# Altium schematic symbol library Mechanical_Parts.SchLib: 7 symbols
Pins are listed as number, name and electrical type; pins without a type are passive.

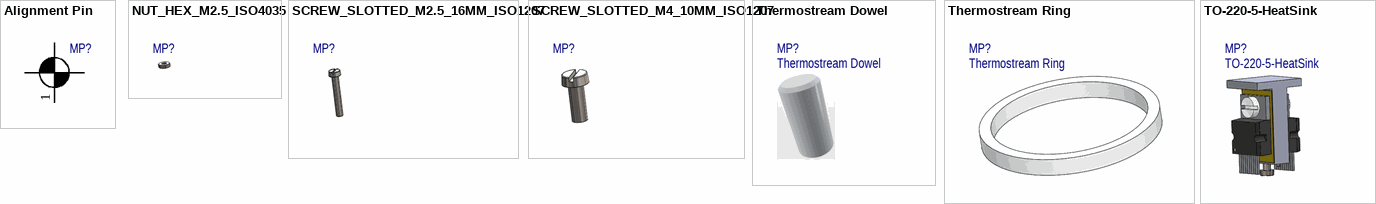
[diagram p0: symbols Alignment Pin to TO-220-5-HeatSink]

## Alignment Pin
designator MP?, comment GP  (value not drawn)
Board to Backplane Alignment Pin; ComponentLink1Description: Supplier Info; ComponentLink1URL: *; ComponentLink2Description: Datasheet; ComponentLink2URL: *
footprint EGBF-RA-20 (Alignment with Backplane (Card Side))
pins: 1

## NUT_HEX_M2.5_ISO4035
designator MP?, comment ISO4035 - M2.5  (value not drawn)
Nut; Hex Thin; M2.5; Chamfered grade AB; ISO4035
footprint ISO4035 - M2.5

## SCREW_SLOTTED_M2.5_16MM_ISO1207
designator MP?, comment ISO1207 - M2.5x16  (value not drawn)
Screw; Slotted Cheese Head; M2.5; 16mm; ISO1207
footprint ISO1207 M2.5x16 (SlottedCheese Head Screw M2.5x16)

## SCREW_SLOTTED_M4_10MM_ISO1207
designator MP?, comment ISO1207 - M4x10  (value not drawn)
Screw; Slotted Cheese Head; M4; 10mm; ISO1207
footprint ISO1207 M4x10 (SlottedCheese Head Screw M4x10)

## Thermostream Dowel
designator MP?  value Thermostream Dowel  (hidden comment: *)
footprint Thermo Dowel

## Thermostream Ring
designator MP?  value Thermostream Ring  (hidden comment: *)
footprint Thermo Stream Ring

## TO-220-5-HeatSink
designator MP?
HEATSINK TO-220-5 Standing 22mm; Manufacturer: Likom CMS; Manufacturer Part Number: TP220-HeatSink; Supplier 1: *; Supplier Part Number 1: *; Value: TO-220-5-HeatSink
footprint TO-220-5-Standing Heatsink